# EAGLE library part 74HC2G14 (library custom)
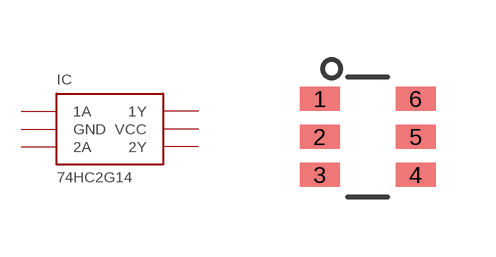
[diagram p1: symbol with the pads of TSSOP-6; footprint TSSOP-6]

Designator prefix IC

## 74HC2G14  [TSSOP-6]
1  1A
2  GND
3  2A
4  2Y
5  VCC
6  1Y

## Footprint TSSOP-6 (pad centres in mm)
smd 1 x 0.6: 1 -1.2,0.95; 2 -1.2,0; 3 -1.2,-0.95; 4 1.2,-0.95; 5 1.2,0; 6 1.2,0.95